# EAGLE library part LIC4316 (library LTC4316)
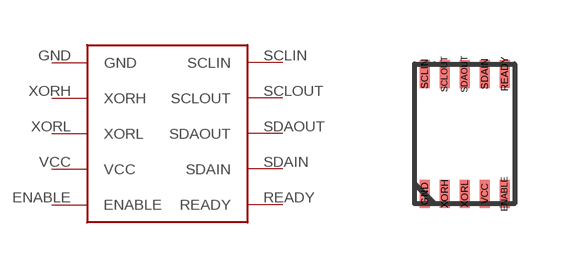
[diagram p0: symbol with the pads of DD-DFN-10; footprint DD-DFN-10]

Designator prefix -

## LIC4316  [DD-DFN-10]
ENABLE  ENABLE
GND  GND
READY  READY
SCLIN  SCLIN
SCLOUT  SCLOUT
SDAIN  SDAIN
SDAOUT  SDAOUT
VCC  VCC
XORH  XORH
XORL  XORL

## Footprint DD-DFN-10 (pad centres in mm)
smd 0.25 x 0.7: ENABLE 1,-1.5; GND -1,-1.5; READY 1,1.5; SCLIN -1,1.5; SCLOUT -0.5,1.5; SDAIN 0.5,1.5; SDAOUT 0,1.5; VCC 0.5,-1.5; XORH -0.5,-1.5; XORL 0,-1.5